# Altium footprint library Butttons.PcbLib: 9 footprints
Each footprint in its own frame and in the unit in brackets; x right, y up, seen from the top. Pads: shape width x height; smd on the part's side, far side on the other; paste and mask are expansions set on the pad; w line width, h text height; cw(c..) or ccw(c..) is an arc to the next point about the centre after c.
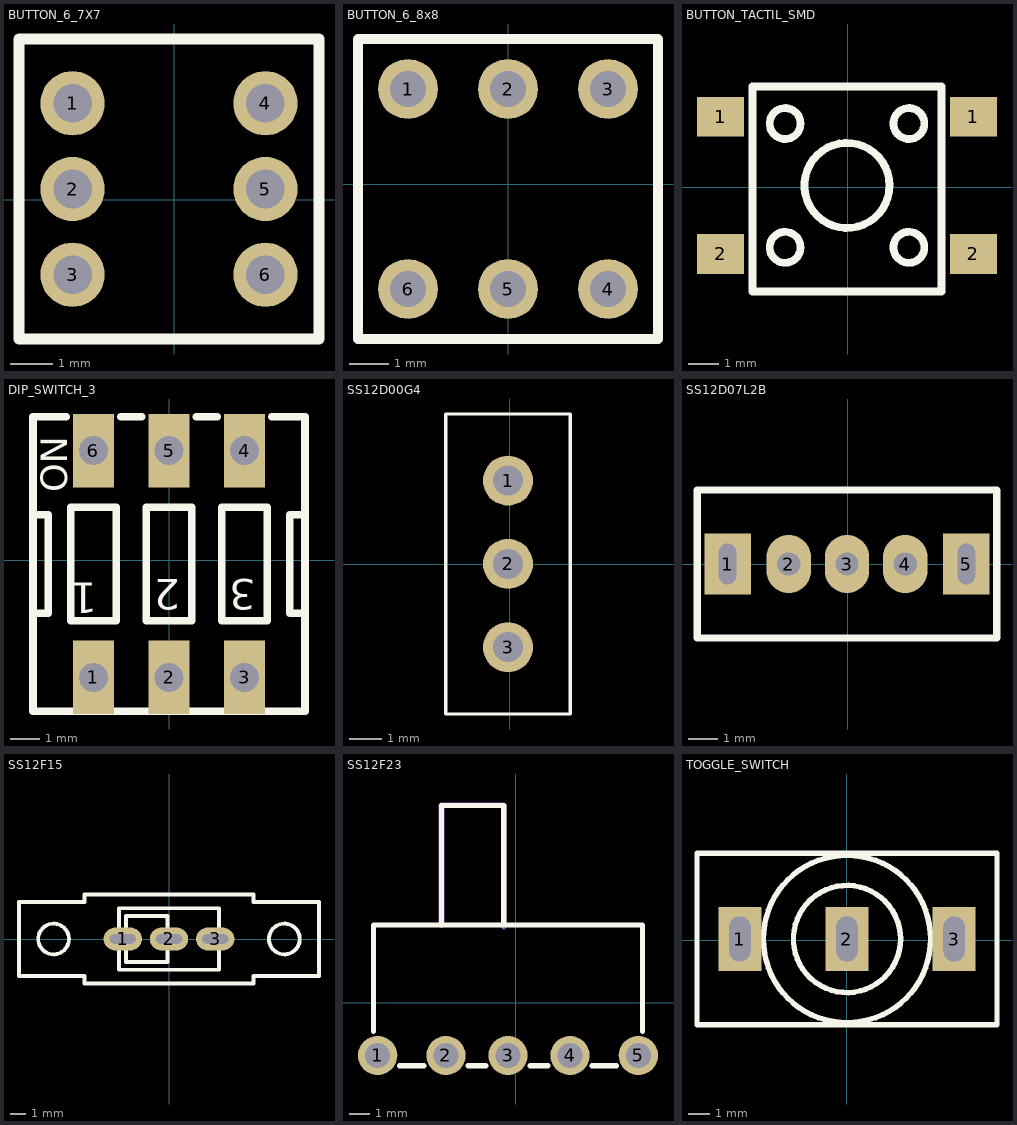
[diagram p0: the footprints below, top view; thin cyan lines are the x and y axes]

## BUTTON_6_7X7 [mil]
pads (6):
  round 60 hole 36: 1(-95,90) 2(-95,10) 3(-95,-70) 4(85,90) 5(85,10) 6(85,-70)
Top Overlay:
  lines w10: -145,-130 -145,150 135,150 135,-130 -145,-130
3D body "TL2230EEF100--3DModel-STEP-613395.STEP": height 492.13, standoff -137.8, extent -142.8,-127.8 132.8,147.8

## BUTTON_6_8x8 [mil]
pads (6):
  round 60 hole 36: 1(-100,95) 2(0,95) 3(100,95) 4(100,-105) 5(0,-105) 6(-100,-105)
Top Overlay:
  lines w10: -150,-155 150,-155 150,145 -150,145 -150,-155
3D body "BUTTON_6PIN.STEP": height 527.56, standoff -106.3, extent -137.79,-142.79 137.8,132.8

## BUTTON_TACTIL_SMD [mm]
pads (4):
  rect 1.55x1.3 smd: 1(-4.178,2.303) 1(4.122,2.303) 2(-4.178,-2.197) 2(4.122,-2.197)
Top Overlay:
  circle w0.254: c-0.028,0.053 r1.397
  circle w0.254: c2.004,-1.979 r0.508
  circle w0.254: c-2.06,-1.979 r0.508
  circle w0.254: c2.004,2.085 r0.508
  circle w0.254: c-2.06,2.085 r0.508
  lines w0.254: -3.128,-3.427 3.073,-3.427 3.073,3.3 -3.128,3.3 -3.128,-3.427
3D body "BUTTON_TACTIL_SMD.stp": height 4.3, standoff 0, extent -4.309,-3.3 4.191,3.3

## DIP_SWITCH_3 [mil]
pads (6):
  rect 53.9x97.1 hole 38.2: 1(-100,-154.88) 2(0,-154.88) 3(100,-154.88) 4(100,145.12) 5(0,145.12) 6(-100,145.12)
Top Overlay:
  lines w10: -136.05,190.12 -180,190.12 -180,60.12 ; -63.95,190.12 -36.05,190.12 ; 36.05,190.12 63.95,190.12 ; 136.05,190.12 180,190.12 180,60.12 ; -180,-69.88 -180,60.12 ; -180,-69.88 -180,-199.88 180,-199.88 180,-69.88 ; -180,-69.88 -160,-69.88 -160,60.12 -180,60.12 ; 180,-69.88 180,60.12 ; 180,-69.88 160,-69.88 160,60.12 180,60.12 ; -130,-79.88 -130,70.12 -70,70.12 -70,-79.88 -130,-79.88 ; -30,-79.88 30,-79.88 30,70.12 -30,70.12 -30,-79.88 ; 70,-79.88 130,-79.88 130,70.12 70,70.12 70,-79.88
  text "ON" at -135,90.12 h35.43
  text "1" at -95,-29.88 h40
  text "2" at 15,-24.88 h40
  text "3" at 115,-24.88 h40
3D body "switch3_DIP.stp": height 283.46, standoff -122.05, extent -181.41,-199.88 180,189.88

## SS12D00G4 [mil]
pads (3):
  round 60 hole 36: 1(-1.82,100.12) 2(-1.82,0.12) 3(-1.82,-99.88)
Top Overlay:
  lines w3.94: -76.62,-180 72.98,-180 72.98,180 -76.62,180 -76.62,-180
3D body "chaveSS12D00G4.STEP": height 216.54, standoff -157.48, extent -72.69,-177.05 69.04,177.28

## SS12D07L2B [mm]
pads (5):
  rect 1.6x2.1 hole 0.6 slot 1.4 at 90 deg: 1(-4.132,0) 5(4.068,0)
  oval 1.524x2 hole 0.8: 2(-2.032,0) 3(-0.032,0) 4(1.968,0)
Top Overlay:
  lines w0.254: -5.177,-2.54 5.11,-2.54 5.11,2.54 -5.177,2.54 -5.177,-2.54
3D body "chaveSS12D07L2B.stp": height 6.7, standoff -2.8, extent -4.332,-2.25 4.268,2.25

## SS12F15 [mm]
pads (3):
  oval 2.5x1.5 hole 0.6 slot 1.7 at 0 deg: 1(-3.002,0.025) 2(-0.002,0.025) 3(2.998,0.025)
Top Overlay:
  circle w0.254: c-7.502,0.025 r1
  circle w0.254: c7.498,0.025 r1
  lines w0.254: -9.752,-2.375 -9.752,2.425 -5.502,2.425 -5.502,2.925 5.498,2.925 5.498,2.425 9.748,2.425 9.748,-2.375 5.499,-2.375 ; -9.752,-2.375 -5.502,-2.375 -5.502,-2.875 5.498,-2.875 5.498,-2.375 ; -3.252,-1.975 -3.252,2.025 3.248,2.025 3.248,-1.975 -3.252,-1.975 ; -2.802,-1.475 -2.802,1.525 -0.102,1.525 -0.102,-1.475 -2.802,-1.475
3D body "SS12F15.stp": height 11, standoff -2.34, extent -9.779,-2.794 9.721,3.006

## SS12F23 [mm]
pads (5):
  round 1.9 hole 1.2: 1(-6.685,-2.555) 2(-3.385,-2.555) 3(-0.385,-2.555) 4(2.615,-2.555) 5(5.915,-2.555)
Top Overlay:
  lines w0.254: -6.885,-1.391 -6.885,3.745 6.115,3.745 6.115,-1.391 ; -5.615,-3.055 -4.455,-3.055 ; -3.595,3.745 -3.595,9.525 -0.595,9.525 -0.595,3.745 ; -2.315,-3.055 -1.455,-3.055 ; 0.685,-3.055 1.545,-3.055 ; 3.685,-3.055 4.845,-3.055
Mechanical 15:
  region: -3.595,9.398 -0.723,9.398 -0.723,3.683 -0.723,3.63 -0.648,3.556 -0.543,3.556 -0.469,3.63 -0.469,3.683 -0.469,9.525 -0.469,9.55 -0.488,9.597 -0.524,9.633 -0.57,9.652 -0.596,9.652 -3.595,9.652 -3.648,9.652 -3.722,9.578 -3.722,9.472 -3.648,9.398
  region: -3.468,3.745 -3.468,9.525 -3.468,9.578 -3.543,9.652 -3.648,9.652 -3.722,9.578 -3.722,9.525 -3.722,3.745 -3.722,3.692 -3.648,3.618 -3.543,3.618 -3.468,3.692
3D body "SS12F23.STEP": height 5.75, standoff -3.35, extent -6.841,-3.352 6.159,9.548

## TOGGLE_SWITCH [mm]
pads (3):
  rect 2x3 hole 1 slot 2.1 at 90 deg: 1(-4.985,0.063) 2(0.015,0.063) 3(5.015,0.063)
Top Overlay:
  circle w0.254: c0.015,0.063 r3.905
  circle w0.254: c0.015,0.063 r2.5
  lines w0.254: -6.985,-3.937 -6.985,4.063 0.015,4.063 7.015,4.063 7.015,-3.937 -6.985,-3.937
3D body "TOGGLE_SWITCH.STEP": height 29.99, standoff -4.78, extent -6.335,-3.367 6.365,3.493